# EAGLE library part TSW-109-02-S-S (library con-samtec)
THROUGH-HOLE .025" SQ POST HEADER Source: Samtec TSW.pdf
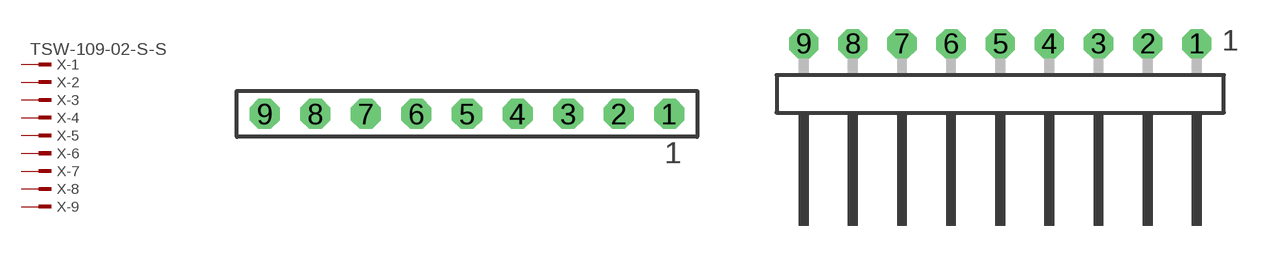
[diagram p237: symbol with the pads of TSW-109-02-S-S; footprints TSW-109-02-S-S, TSW-109-02-S-S-RA]

Designator prefix X; gates -1=MPINV -2=MPIN -3=MPIN -4=MPIN -5=MPIN -6=MPIN -7=MPIN -8=MPIN -9=MPIN

## TSW-109-02-S-S  [TSW-109-02-S-S]
1  -1:1  pas
2  -2:1  pas
3  -3:1  pas
4  -4:1  pas
5  -5:1  pas
6  -6:1  pas
7  -7:1  pas
8  -8:1  pas
9  -9:1  pas

## TSW-109-02-S-S-RA  [TSW-109-02-S-S-RA]
Pads as for TSW-109-02-S-S

## Footprint TSW-109-02-S-S (pad centres in mm)
THROUGH-HOLE .025" SQ POST HEADER Source: Samtec TSW.pdf
drill 1 pad 1.5 octagon: 1 10.16,0; 2 7.62,0; 3 5.08,0; 4 2.54,0; 5 0,0; 6 -2.54,0; 7 -5.08,0; 8 -7.62,0; 9 -10.16,0

## Footprint TSW-109-02-S-S-RA (pad centres in mm)
THROUGH-HOLE .025" SQ POST HEADER Source: Samtec TSW.pdf
drill 1 pad 1.5 octagon: 1 10.16,1.524; 2 7.62,1.524; 3 5.08,1.524; 4 2.54,1.524; 5 0,1.524; 6 -2.54,1.524; 7 -5.08,1.524; 8 -7.62,1.524; 9 -10.16,1.524